# Altium schematic symbol library 691 318 400 0xx.SchLib: 6 symbols
Pins are listed as number, name and electrical type; pins without a type are passive.

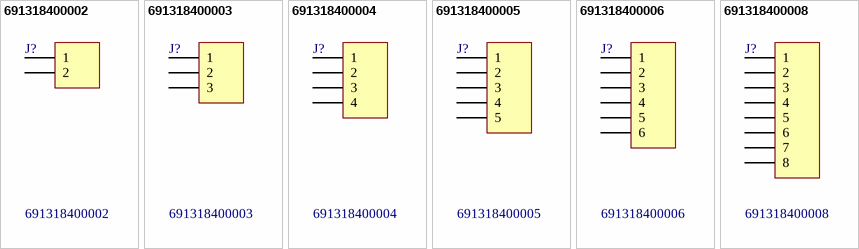
[diagram p0: symbols 691318400002 to 691318400008]

## 691318400002
designator J?
WR-TBL Terminal Blocks Serie 3184 - 7.62 mm  with Flanges; Manufacturer: Würth Elektronik eiSos GmbH; ComponentLink1 Description: Manufacturer; ComponentLink2 Description: Datasheet; NoPins: 02; Created Date: 09 April 2014; partNo: 691318400002; ComponentLink1URL: http://www.we-online.com; ComponentLink2URL: http://katalog.we-online.de/em/datasheet/6913184000xx.pdf; Created by: Karrer Zheng
footprint 691318400002 (7.62 mm - Closed Vertical PCB Header with Flanges - 2p)
pins: 1, 2

## 691318400003
designator J?
WR-TBL Terminal Blocks Serie 3184 - 7.62 mm  with Flanges; Manufacturer: Würth Elektronik eiSos GmbH; ComponentLink1 Description: Manufacturer; ComponentLink2 Description: Datasheet; NoPins: 03; Created Date: 09 April 2014; partNo: 691318400003; ComponentLink1URL: http://www.we-online.com; ComponentLink2URL: http://katalog.we-online.de/em/datasheet/6913184000xx.pdf; Created by: Karrer Zheng
footprint 691318400003 (7.62 mm - Closed Vertical PCB Header with Flanges - 3p)
pins: 1, 2, 3

## 691318400004
designator J?
WR-TBL Terminal Blocks Serie 3184 - 7.62 mm  with Flanges; Manufacturer: Würth Elektronik eiSos GmbH; ComponentLink1 Description: Manufacturer; ComponentLink2 Description: Datasheet; NoPins: 04; Created Date: 09 April 2014; partNo: 691318400004; ComponentLink1URL: http://www.we-online.com; ComponentLink2URL: http://katalog.we-online.de/em/datasheet/6913184000xx.pdf; Created by: Karrer Zheng
footprint 691318400004 (7.62 mm - Closed Vertical PCB Header with Flanges - 4p)
pins: 1, 2, 3, 4

## 691318400005
designator J?
WR-TBL Terminal Blocks Serie 3184 - 7.62 mm  with Flanges; Manufacturer: Würth Elektronik eiSos GmbH; ComponentLink1 Description: Manufacturer; ComponentLink2 Description: Datasheet; NoPins: 05; Created Date: 09 April 2014; partNo: 691318400005; ComponentLink1URL: http://www.we-online.com; ComponentLink2URL: http://katalog.we-online.de/em/datasheet/6913184000xx.pdf; Created by: Karrer Zheng
footprint 691318400005 (7.62 mm - Closed Vertical PCB Header with Flanges - 5p)
pins: 1, 2, 3, 4, 5

## 691318400006
designator J?
WR-TBL Terminal Blocks Serie 3184 - 7.62 mm  with Flanges; Manufacturer: Würth Elektronik eiSos GmbH; ComponentLink1 Description: Manufacturer; ComponentLink2 Description: Datasheet; NoPins: 06; Created Date: 09 April 2014; partNo: 691318400006; ComponentLink1URL: http://www.we-online.com; ComponentLink2URL: http://katalog.we-online.de/em/datasheet/6913184000xx.pdf; Created by: Karrer Zheng
footprint 691318400006 (7.62 mm - Closed Vertical PCB Header with Flanges - 6p)
pins: 1, 2, 3, 4, 5, 6

## 691318400008
designator J?
WR-TBL Terminal Blocks Serie 3184 - 7.62 mm  with Flanges; Manufacturer: Würth Elektronik eiSos GmbH; ComponentLink1 Description: Manufacturer; ComponentLink2 Description: Datasheet; NoPins: 08; Created Date: 09 April 2014; partNo: 691318400008; ComponentLink1URL: http://www.we-online.com; ComponentLink2URL: http://katalog.we-online.de/em/datasheet/6913184000xx.pdf; Created by: Karrer Zheng
footprint 691318400008 (7.62 mm - Closed Vertical PCB Header with Flanges - 8p)
pins: 1, 2, 3, 4, 5, 6, 7, 8